# Altium footprint library PIC32MX795F512H-80VMR.PcbLib: 3 footprints
Each footprint in its own frame and in the unit in brackets; x right, y up, seen from the top. Pads: shape width x height; smd on the part's side, far side on the other; paste and mask are expansions set on the pad; w line width, h text height; cw(c..) or ccw(c..) is an arc to the next point about the centre after c.
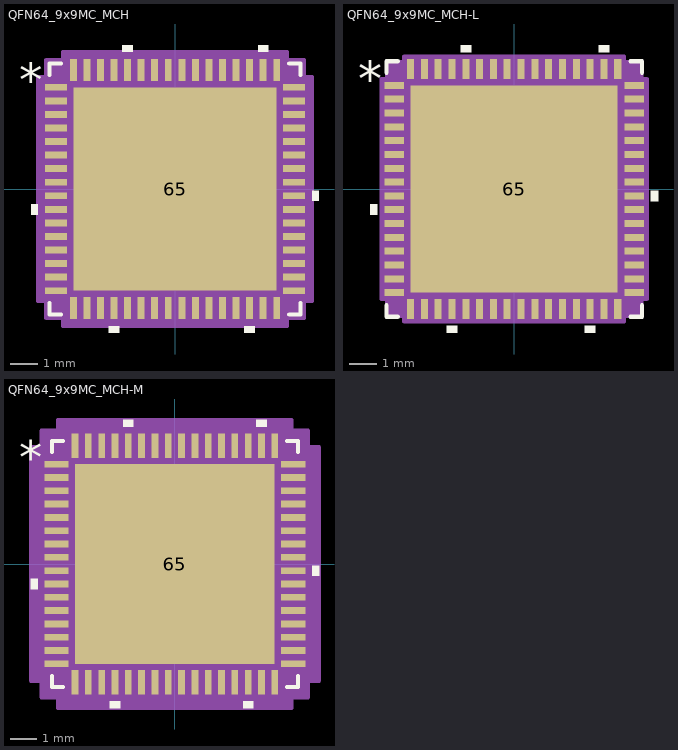
[diagram p0: the footprints below, top view; thin cyan lines are the x and y axes]

## QFN64_9x9MC_MCH [mil]
pads (65):
  rect 32x10 smd paste+0 mask+0: 1(-173,147.64) 2(-173,127.95) 3(-173,108.27) 4(-173,88.58) 5(-173,68.9) 6(-173,49.21) 7(-173,29.53) 8(-173,9.84) 9(-173,-9.84) 10(-173,-29.53) 11(-173,-49.21) 12(-173,-68.9) 13(-173,-88.58) 14(-173,-108.27) 15(-173,-127.95) 16(-173,-147.64) 33(173,-147.64) 34(173,-127.95) 35(173,-108.27) 36(173,-88.58) 37(173,-68.9) 38(173,-49.21) 39(173,-29.53) 40(173,-9.84) 41(173,9.84) 42(173,29.53) 43(173,49.21) 44(173,68.9) 45(173,88.58) 46(173,108.27) 47(173,127.95) 48(173,147.64)
  rect 10x32 smd paste+0 mask+0: 17(-147.64,-173) 18(-127.95,-173) 19(-108.27,-173) 20(-88.58,-173) 21(-68.9,-173) 22(-49.21,-173) 23(-29.53,-173) 24(-9.84,-173) 25(9.84,-173) 26(29.53,-173) 27(49.21,-173) 28(68.9,-173) 29(88.58,-173) 30(108.27,-173) 31(127.95,-173) 32(147.64,-173) 49(147.64,173) 50(127.95,173) 51(108.27,173) 52(88.58,173) 53(68.9,173) 54(49.21,173) 55(29.53,173) 56(9.84,173) 57(-9.84,173) 58(-29.53,173) 59(-49.21,173) 60(-68.9,173) 61(-88.58,173) 62(-108.27,173) 63(-127.95,173) 64(-147.64,173)
  rect 295x295 smd paste-147.5 mask+0: 65(0,0)
Top Overlay:
  region: -199,-22.03 -209,-22.03 -209,-37.03 -199,-37.03
  region: -81.08,-199 -96.08,-199 -96.08,-209 -81.08,-209
  region: 115.77,-199 100.77,-199 100.77,-209 115.77,-209
  region: 199,-2.34 209,-2.34 209,-17.34 199,-17.34
  region: 135.45,199 120.45,199 120.45,209 135.45,209
  region: -61.4,199 -76.4,199 -76.4,209 -61.4,209
  lines w6: -182,-165.74 -182,-182 -165.74,-182 ; -182,165.74 -182,182 -165.74,182 ; 165.74,-182 182,-182 182,-165.74 ; 165.74,182 182,182 182,165.74
  text "*" at -226.5,132.48 h50
  text ".Designator" at -137.5,-25 h50
Top Paste:
  region: -92.44,143.56 -143.56,143.56 -143.56,92.44 -92.44,92.44
  region: -92.44,84.56 -143.56,84.56 -143.56,33.44 -92.44,33.44
  region: -92.44,25.56 -143.56,25.56 -143.56,-25.56 -92.44,-25.56
  region: -92.44,-33.44 -143.56,-33.44 -143.56,-84.56 -92.44,-84.56
  region: -92.44,-92.44 -143.56,-92.44 -143.56,-143.56 -92.44,-143.56
  region: -33.44,143.56 -84.56,143.56 -84.56,92.44 -33.44,92.44
  region: -33.44,84.56 -84.56,84.56 -84.56,33.44 -33.44,33.44
  region: -33.44,25.56 -84.56,25.56 -84.56,-25.56 -33.44,-25.56
  region: -33.44,-33.44 -84.56,-33.44 -84.56,-84.56 -33.44,-84.56
  region: -33.44,-92.44 -84.56,-92.44 -84.56,-143.56 -33.44,-143.56
  region: 25.56,143.56 -25.56,143.56 -25.56,92.44 25.56,92.44
  region: 25.56,84.56 -25.56,84.56 -25.56,33.44 25.56,33.44
  region: 25.56,25.56 -25.56,25.56 -25.56,-25.56 25.56,-25.56
  region: 25.56,-33.44 -25.56,-33.44 -25.56,-84.56 25.56,-84.56
  region: 25.56,-92.44 -25.56,-92.44 -25.56,-143.56 25.56,-143.56
  region: 84.56,143.56 33.44,143.56 33.44,92.44 84.56,92.44
  region: 84.56,84.56 33.44,84.56 33.44,33.44 84.56,33.44
  region: 84.56,25.56 33.44,25.56 33.44,-25.56 84.56,-25.56
  region: 84.56,-33.44 33.44,-33.44 33.44,-84.56 84.56,-84.56
  region: 84.56,-92.44 33.44,-92.44 33.44,-143.56 84.56,-143.56
  region: 143.56,143.56 92.44,143.56 92.44,92.44 143.56,92.44
  region: 143.56,84.56 92.44,84.56 92.44,33.44 143.56,33.44
  region: 143.56,25.56 92.44,25.56 92.44,-25.56 143.56,-25.56
  region: 143.56,-33.44 92.44,-33.44 92.44,-84.56 143.56,-84.56
  region: 143.56,-92.44 92.44,-92.44 92.44,-143.56 143.56,-143.56
Mechanical 13:
  drawing of 265 lines, arcs and shapes, not listed
  text ".Designator" at -137.5,-25 h50
  text "*" at -169.5,132.48 h50
Mechanical 15:
  region: -162.64,-187 -187,-187 -187,-162.64 -199,-162.64 -199,162.64 -187,162.64 -187,187 -162.64,187 -162.64,199 162.64,199 162.64,187 187,187 187,162.64 199,162.64 199,-162.64 187,-162.64 187,-187 162.64,-187 162.64,-199 -162.64,-199
  lines w6: -199,-162.64 -187,-162.64 -187,-187 -162.64,-187 -162.64,-199 162.64,-199 162.64,-187 187,-187 187,-162.64 199,-162.64 199,162.64 187,162.64 187,187 162.64,187 162.64,199 -162.64,199 -162.64,187 -187,187 -187,162.64 -199,162.64 -199,-162.64
3D body "QFN64_9x9MC_MCH.step": height 39.09, standoff 0, extent -177.01,-177.01 177.01,177.01

## QFN64_9x9MC_MCH-L [mil]
pads (65):
  rect 28x10 smd paste+0 mask+0: 1(-171,147.64) 2(-171,127.95) 3(-171,108.27) 4(-171,88.58) 5(-171,68.9) 6(-171,49.21) 7(-171,29.53) 8(-171,9.84) 9(-171,-9.84) 10(-171,-29.53) 11(-171,-49.21) 12(-171,-68.9) 13(-171,-88.58) 14(-171,-108.27) 15(-171,-127.95) 16(-171,-147.64) 33(171,-147.64) 34(171,-127.95) 35(171,-108.27) 36(171,-88.58) 37(171,-68.9) 38(171,-49.21) 39(171,-29.53) 40(171,-9.84) 41(171,9.84) 42(171,29.53) 43(171,49.21) 44(171,68.9) 45(171,88.58) 46(171,108.27) 47(171,127.95) 48(171,147.64)
  rect 10x28 smd paste+0 mask+0: 17(-147.64,-171) 18(-127.95,-171) 19(-108.27,-171) 20(-88.58,-171) 21(-68.9,-171) 22(-49.21,-171) 23(-29.53,-171) 24(-9.84,-171) 25(9.84,-171) 26(29.53,-171) 27(49.21,-171) 28(68.9,-171) 29(88.58,-171) 30(108.27,-171) 31(127.95,-171) 32(147.64,-171) 49(147.64,171) 50(127.95,171) 51(108.27,171) 52(88.58,171) 53(68.9,171) 54(49.21,171) 55(29.53,171) 56(9.84,171) 57(-9.84,171) 58(-29.53,171) 59(-49.21,171) 60(-68.9,171) 61(-88.58,171) 62(-108.27,171) 63(-127.95,171) 64(-147.64,171)
  rect 295x295 smd paste-147.5 mask+0: 65(0,0)
Top Overlay:
  region: -195,-22.03 -205,-22.03 -205,-37.03 -195,-37.03
  region: -81.08,-195 -96.08,-195 -96.08,-205 -81.08,-205
  region: 115.77,-195 100.77,-195 100.77,-205 115.77,-205
  region: 195,-2.34 205,-2.34 205,-17.34 195,-17.34
  region: 135.45,195 120.45,195 120.45,205 135.45,205
  region: -61.4,195 -76.4,195 -76.4,205 -61.4,205
  lines w6: -182,-165.74 -182,-182 -165.74,-182 ; -182,165.74 -182,182 -165.74,182 ; 165.74,-182 182,-182 182,-165.74 ; 165.74,182 182,182 182,165.74
  text "*" at -222.5,132.48 h50
  text ".Designator" at -137.5,-25 h50
Top Paste:
  region: -92.44,143.56 -143.56,143.56 -143.56,92.44 -92.44,92.44
  region: -92.44,84.56 -143.56,84.56 -143.56,33.44 -92.44,33.44
  region: -92.44,25.56 -143.56,25.56 -143.56,-25.56 -92.44,-25.56
  region: -92.44,-33.44 -143.56,-33.44 -143.56,-84.56 -92.44,-84.56
  region: -92.44,-92.44 -143.56,-92.44 -143.56,-143.56 -92.44,-143.56
  region: -33.44,143.56 -84.56,143.56 -84.56,92.44 -33.44,92.44
  region: -33.44,84.56 -84.56,84.56 -84.56,33.44 -33.44,33.44
  region: -33.44,25.56 -84.56,25.56 -84.56,-25.56 -33.44,-25.56
  region: -33.44,-33.44 -84.56,-33.44 -84.56,-84.56 -33.44,-84.56
  region: -33.44,-92.44 -84.56,-92.44 -84.56,-143.56 -33.44,-143.56
  region: 25.56,143.56 -25.56,143.56 -25.56,92.44 25.56,92.44
  region: 25.56,84.56 -25.56,84.56 -25.56,33.44 25.56,33.44
  region: 25.56,25.56 -25.56,25.56 -25.56,-25.56 25.56,-25.56
  region: 25.56,-33.44 -25.56,-33.44 -25.56,-84.56 25.56,-84.56
  region: 25.56,-92.44 -25.56,-92.44 -25.56,-143.56 25.56,-143.56
  region: 84.56,143.56 33.44,143.56 33.44,92.44 84.56,92.44
  region: 84.56,84.56 33.44,84.56 33.44,33.44 84.56,33.44
  region: 84.56,25.56 33.44,25.56 33.44,-25.56 84.56,-25.56
  region: 84.56,-33.44 33.44,-33.44 33.44,-84.56 84.56,-84.56
  region: 84.56,-92.44 33.44,-92.44 33.44,-143.56 84.56,-143.56
  region: 143.56,143.56 92.44,143.56 92.44,92.44 143.56,92.44
  region: 143.56,84.56 92.44,84.56 92.44,33.44 143.56,33.44
  region: 143.56,25.56 92.44,25.56 92.44,-25.56 143.56,-25.56
  region: 143.56,-33.44 92.44,-33.44 92.44,-84.56 143.56,-84.56
  region: 143.56,-92.44 92.44,-92.44 92.44,-143.56 143.56,-143.56
Mechanical 13:
  drawing of 265 lines, arcs and shapes, not listed
  text ".Designator" at -137.5,-25 h50
  text "*" at -169.5,132.48 h50
Mechanical 15:
  region: -156.64,-181 -181,-181 -181,-156.64 -189,-156.64 -189,156.64 -181,156.64 -181,181 -156.64,181 -156.64,189 156.64,189 156.64,181 181,181 181,156.64 189,156.64 189,-156.64 181,-156.64 181,-181 156.64,-181 156.64,-189 -156.64,-189
  lines w6: -189,-156.64 -181,-156.64 -181,-181 -156.64,-181 -156.64,-189 156.64,-189 156.64,-181 181,-181 181,-156.64 189,-156.64 189,156.64 181,156.64 181,181 156.64,181 156.64,189 -156.64,189 -156.64,181 -181,181 -181,156.64 -189,156.64 -189,-156.64
3D body "QFN64_9x9MC_MCH.step": height 39.09, standoff 0, extent -177.01,-177.01 177.01,177.01

## QFN64_9x9MC_MCH-M [mil]
pads (65):
  rect 36x10 smd paste+0 mask+0: 1(-175,147.64) 2(-175,127.95) 3(-175,108.27) 4(-175,88.58) 5(-175,68.9) 6(-175,49.21) 7(-175,29.53) 8(-175,9.84) 9(-175,-9.84) 10(-175,-29.53) 11(-175,-49.21) 12(-175,-68.9) 13(-175,-88.58) 14(-175,-108.27) 15(-175,-127.95) 16(-175,-147.64) 33(175,-147.64) 34(175,-127.95) 35(175,-108.27) 36(175,-88.58) 37(175,-68.9) 38(175,-49.21) 39(175,-29.53) 40(175,-9.84) 41(175,9.84) 42(175,29.53) 43(175,49.21) 44(175,68.9) 45(175,88.58) 46(175,108.27) 47(175,127.95) 48(175,147.64)
  rect 10x36 smd paste+0 mask+0: 17(-147.64,-175) 18(-127.95,-175) 19(-108.27,-175) 20(-88.58,-175) 21(-68.9,-175) 22(-49.21,-175) 23(-29.53,-175) 24(-9.84,-175) 25(9.84,-175) 26(29.53,-175) 27(49.21,-175) 28(68.9,-175) 29(88.58,-175) 30(108.27,-175) 31(127.95,-175) 32(147.64,-175) 49(147.64,175) 50(127.95,175) 51(108.27,175) 52(88.58,175) 53(68.9,175) 54(49.21,175) 55(29.53,175) 56(9.84,175) 57(-9.84,175) 58(-29.53,175) 59(-49.21,175) 60(-68.9,175) 61(-88.58,175) 62(-108.27,175) 63(-127.95,175) 64(-147.64,175)
  rect 295x295 smd paste-147.5 mask+0: 65(0,0)
Top Overlay:
  region: -203,-22.03 -213,-22.03 -213,-37.03 -203,-37.03
  region: -81.08,-203 -96.08,-203 -96.08,-213 -81.08,-213
  region: 115.77,-203 100.77,-203 100.77,-213 115.77,-213
  region: 203,-2.34 213,-2.34 213,-17.34 203,-17.34
  region: 135.45,203 120.45,203 120.45,213 135.45,213
  region: -61.4,203 -76.4,203 -76.4,213 -61.4,213
  lines w6: -182,-165.74 -182,-182 -165.74,-182 ; -182,165.74 -182,182 -165.74,182 ; 165.74,-182 182,-182 182,-165.74 ; 165.74,182 182,182 182,165.74
  text "*" at -230.5,132.48 h50
  text ".Designator" at -137.5,-25 h50
Top Paste:
  region: -92.44,143.56 -143.56,143.56 -143.56,92.44 -92.44,92.44
  region: -92.44,84.56 -143.56,84.56 -143.56,33.44 -92.44,33.44
  region: -92.44,25.56 -143.56,25.56 -143.56,-25.56 -92.44,-25.56
  region: -92.44,-33.44 -143.56,-33.44 -143.56,-84.56 -92.44,-84.56
  region: -92.44,-92.44 -143.56,-92.44 -143.56,-143.56 -92.44,-143.56
  region: -33.44,143.56 -84.56,143.56 -84.56,92.44 -33.44,92.44
  region: -33.44,84.56 -84.56,84.56 -84.56,33.44 -33.44,33.44
  region: -33.44,25.56 -84.56,25.56 -84.56,-25.56 -33.44,-25.56
  region: -33.44,-33.44 -84.56,-33.44 -84.56,-84.56 -33.44,-84.56
  region: -33.44,-92.44 -84.56,-92.44 -84.56,-143.56 -33.44,-143.56
  region: 25.56,143.56 -25.56,143.56 -25.56,92.44 25.56,92.44
  region: 25.56,84.56 -25.56,84.56 -25.56,33.44 25.56,33.44
  region: 25.56,25.56 -25.56,25.56 -25.56,-25.56 25.56,-25.56
  region: 25.56,-33.44 -25.56,-33.44 -25.56,-84.56 25.56,-84.56
  region: 25.56,-92.44 -25.56,-92.44 -25.56,-143.56 25.56,-143.56
  region: 84.56,143.56 33.44,143.56 33.44,92.44 84.56,92.44
  region: 84.56,84.56 33.44,84.56 33.44,33.44 84.56,33.44
  region: 84.56,25.56 33.44,25.56 33.44,-25.56 84.56,-25.56
  region: 84.56,-33.44 33.44,-33.44 33.44,-84.56 84.56,-84.56
  region: 84.56,-92.44 33.44,-92.44 33.44,-143.56 84.56,-143.56
  region: 143.56,143.56 92.44,143.56 92.44,92.44 143.56,92.44
  region: 143.56,84.56 92.44,84.56 92.44,33.44 143.56,33.44
  region: 143.56,25.56 92.44,25.56 92.44,-25.56 143.56,-25.56
  region: 143.56,-33.44 92.44,-33.44 92.44,-84.56 143.56,-84.56
  region: 143.56,-92.44 92.44,-92.44 92.44,-143.56 143.56,-143.56
Mechanical 13:
  drawing of 265 lines, arcs and shapes, not listed
  text ".Designator" at -137.5,-25 h50
  text "*" at -169.5,132.48 h50
Mechanical 15:
  region: -172.64,-197 -197,-197 -197,-172.64 -213,-172.64 -213,172.64 -197,172.64 -197,197 -172.64,197 -172.64,213 172.64,213 172.64,197 197,197 197,172.64 213,172.64 213,-172.64 197,-172.64 197,-197 172.64,-197 172.64,-213 -172.64,-213
  lines w6: -213,-172.64 -197,-172.64 -197,-197 -172.64,-197 -172.64,-213 172.64,-213 172.64,-197 197,-197 197,-172.64 213,-172.64 213,172.64 197,172.64 197,197 172.64,197 172.64,213 -172.64,213 -172.64,197 -197,197 -197,172.64 -213,172.64 -213,-172.64
3D body "QFN64_9x9MC_MCH.step": height 39.09, standoff 0, extent -177.01,-177.01 177.01,177.01